# Altium footprint library DBV-6_TI.PcbLib: 1 footprints
Each footprint in its own frame and in the unit in brackets; x right, y up, seen from the top. Pads: shape width x height; smd on the part's side, far side on the other; paste and mask are expansions set on the pad; w line width, h text height; cw(c..) or ccw(c..) is an arc to the next point about the centre after c.
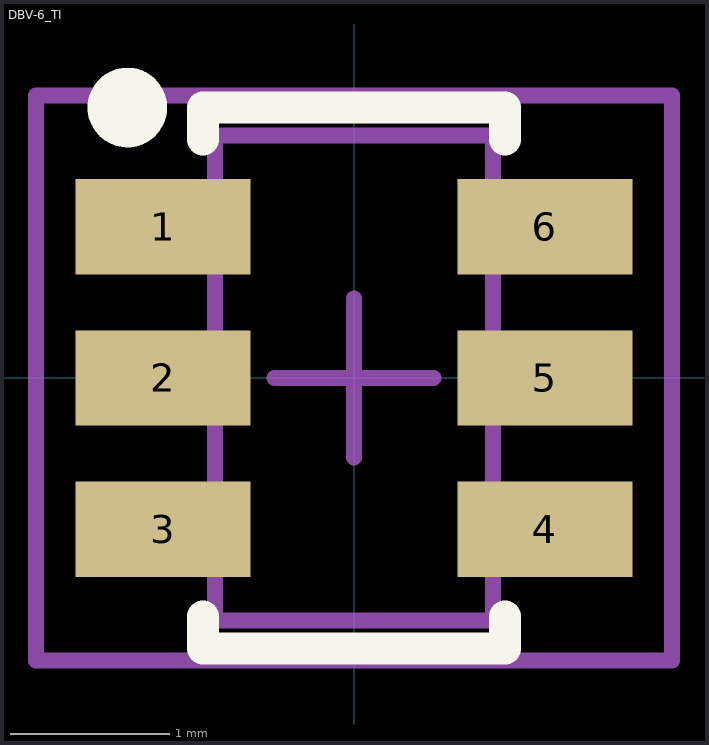
[diagram p0: the footprint, top view; thin cyan lines are the x and y axes]

## DBV-6_TI [mm]
height 1.45
pads (6):
  rect 1.1x0.6 smd: 1(-1.2,0.95) 2(-1.2,0) 3(-1.2,-0.95) 4(1.2,-0.95) 5(1.2,0) 6(1.2,0.95)
Top Overlay:
  circle w0.25: c-1.425,1.7 r0.125
  lines w0.2: -0.95,-1.5 -0.95,-1.7 0.95,-1.7 0.95,-1.5 ; -0.95,1.5 -0.95,1.7 0.95,1.7 0.95,1.5
Mechanical 13:
  lines w0.1: -0.875,-1.525 -0.875,1.525 0.875,1.525 0.875,-1.525 -0.875,-1.525
Mechanical 15:
  lines w0.1: -0.5,0 0.5,0 ; 0,-0.5 0,0.5 ; -2,-1.775 -2,1.775 2,1.775 2,-1.775 -2,-1.775
3D body: height 1.15, standoff 0, extent -1.4,-1.48 1.4,1.47